# EAGLE library part PINHD-1X09 (library Tinkercad)
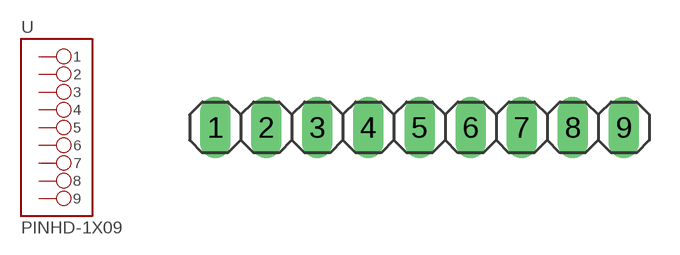
[diagram p25: symbol with the pads of 1X09; footprint 1X09]

Designator prefix -

## PINHD-1X09_1X09M  [1X09]
1  1
2  2
3  3
4  4
5  5
6  6
7  7
8  8
9  9

## Footprint 1X09 (pad centres in mm)
PIN HEADER
drill 1.016 long: 1 -10.16,0; 2 -7.62,0; 3 -5.08,0; 4 -2.54,0; 5 0,0; 6 2.54,0; 7 5.08,0; 8 7.62,0; 9 10.16,0